# Altium footprint library m.PcbLib: 55 footprints (part 3 of 4)
Each footprint in its own frame and in the unit in brackets; x right, y up, seen from the top. Pads: shape width x height; smd on the part's side, far side on the other; paste and mask are expansions set on the pad; w line width, h text height; cw(c..) or ccw(c..) is an arc to the next point about the centre after c.
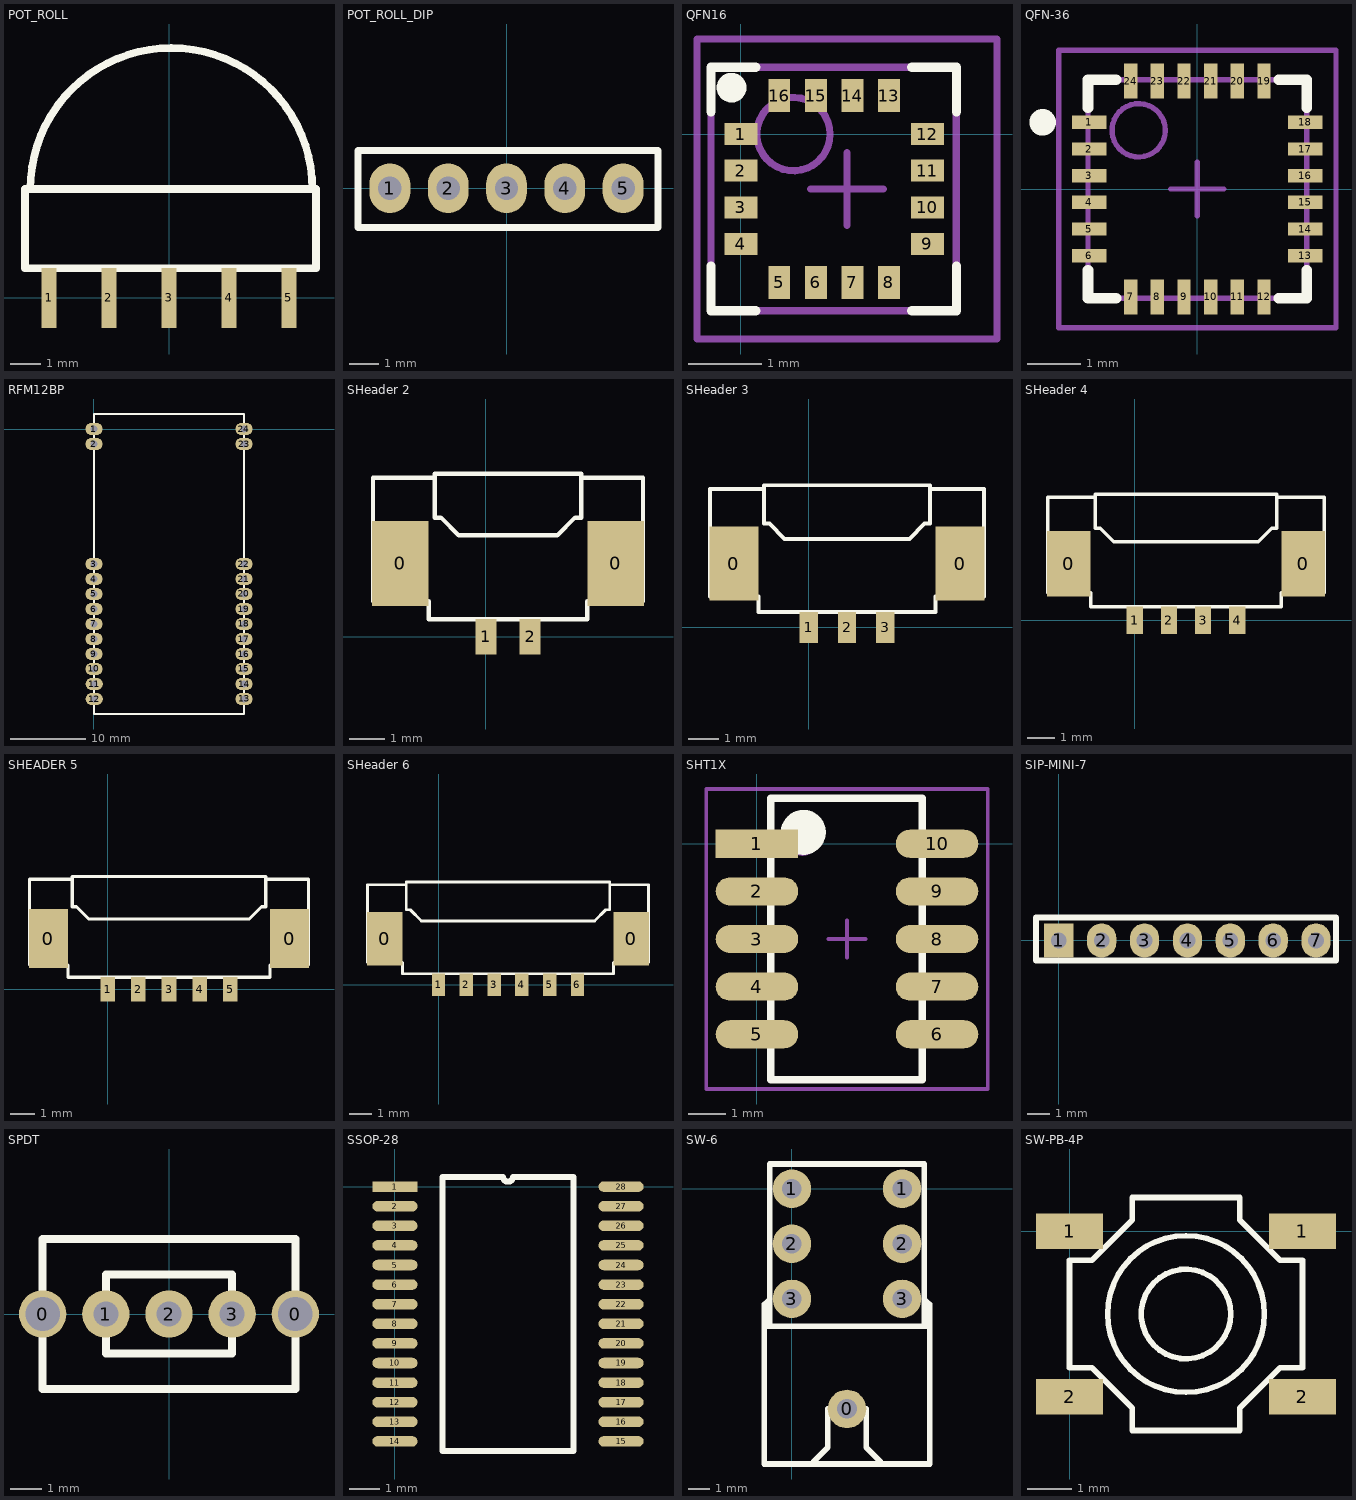
[diagram p2: the footprints below, top view; thin cyan lines are the x and y axes]

## POT_ROLL [mm]
pads (5):
  rect 0.5x2 smd: 1(-4,0) 2(-2,0) 3(0,0) 4(2,0) 5(4,0)
Top Overlay:
  lines w0.254: -4.623,3.632 cw(c0.078,3.632) 4.779,3.632 ; -4.8,0.991 -4.8,3.632 4.9,3.632 4.9,0.991 -4.8,0.991

## POT_ROLL_DIP [mm]
pads (5):
  oval 1.4x1.7 hole 0.8: 1(-4,0) 2(-2,0) 3(0,0) 4(2,0) 5(4,0)
Top Overlay:
  lines w0.254: -5.092,-1.346 5.195,-1.346 5.195,1.295 -5.092,1.295 -5.092,-1.346

## QFN16 [mm] "QFN, 16-Leads, Body 3.0x3.0mm (max), Pitch 0.50mm, IPC Medium Density"
height 0.9
pads (16):
  rect 0.45x0.3 smd: 1(0,0) 2(0,-0.5) 3(0,-1) 4(0,-1.5) 9(2.55,-1.5) 10(2.55,-1) 11(2.55,-0.5) 12(2.55,0)
  rect 0.3x0.45 smd: 5(0.525,-2.025) 6(1.025,-2.025) 7(1.525,-2.025) 8(2.025,-2.025) 13(2.025,0.525) 14(1.525,0.525) 15(1.025,0.525) 16(0.525,0.525)
Top Overlay:
  circle w0.203: c-0.127,0.635 r0.102
  lines w0.127: -0.406,-1.803 -0.406,-2.413 0.203,-2.413 ; -0.406,0.305 -0.406,0.914 0.203,0.914 ; 2.337,-2.413 2.946,-2.413 2.946,-1.803 ; 2.337,0.914 2.946,0.914 2.946,0.305
Mechanical 13:
  circle w0.1: c0.719,0 r0.5
  lines w0.1: -0.406,-2.413 2.946,-2.413 2.946,0.914 -0.406,0.914 -0.406,-2.413
Mechanical 15:
  lines w0.1: 0.951,-0.75 1.951,-0.75 ; 1.451,-1.25 1.451,-0.25 ; -0.599,-2.8 3.501,-2.8 3.501,1.3 -0.599,1.3 -0.599,-2.8
3D body: height 0.9, standoff 0.01, extent -0.178,-2.289 2.822,0.711

## QFN-36 [mm] "QFN, 24-Leads, Body 4.1x4.1mm (max), Pitch 0.50mm, IPC Medium Density"
height 0.95
pads (24):
  rect 0.65x0.25 smd: 1(-2.025,1.25) 2(-2.025,0.75) 3(-2.025,0.25) 4(-2.025,-0.25) 5(-2.025,-0.75) 6(-2.025,-1.25) 13(2.025,-1.25) 14(2.025,-0.75) 15(2.025,-0.25) 16(2.025,0.25) 17(2.025,0.75) 18(2.025,1.25)
  rect 0.25x0.65 smd: 7(-1.25,-2.025) 8(-0.75,-2.025) 9(-0.25,-2.025) 10(0.25,-2.025) 11(0.75,-2.025) 12(1.25,-2.025) 19(1.25,2.025) 20(0.75,2.025) 21(0.25,2.025) 22(-0.25,2.025) 23(-0.75,2.025) 24(-1.25,2.025)
Top Overlay:
  circle w0.25: c-2.9,1.25 r0.125
  lines w0.2: -2.05,-1.525 -2.05,-2.05 -1.525,-2.05 ; -2.05,1.525 -2.05,2.05 -1.525,2.05 ; 1.525,-2.05 2.05,-2.05 2.05,-1.525 ; 1.525,2.05 2.05,2.05 2.05,1.525
Mechanical 13:
  circle w0.1: c-1.1,1.1 r0.5
  lines w0.1: -2.05,-2.05 2.05,-2.05 2.05,2.05 -2.05,2.05 -2.05,-2.05
Mechanical 15:
  lines w0.1: -0.5,0 0.5,0 ; 0,-0.5 0,0.5 ; -2.6,-2.6 2.6,-2.6 2.6,2.6 -2.6,2.6 -2.6,-2.6
3D body: height 0.95, standoff 0.02, extent -2.05,-2.05 2.05,2.05

## RFM12BP [mm]
pads (24):
  oval 2.3x1.6 hole 0.9: 1(0,0) 2(0,-2) 3(0,-18) 4(0,-20) 5(0,-22) 6(0,-24) 7(0,-26) 8(0,-28) 9(0,-30) 10(0,-32) 11(0.025,-34) 12(0.025,-36) 13(20,-36) 14(20,-34) 15(20,-32) 16(20,-30) 17(20,-28) 18(20,-26) 19(20,-24) 20(20,-22) 21(20,-20) 22(20,-18) 23(20,-2) 24(20,0)
Top Overlay:
  lines w0.254: 20,-38 20,2 ; 20,-38 20,-38 ; 20,-38 0,-38 0,2 20,2 ; 20,2 20,2
3D body: height 2, standoff 0, extent 0,-38 20,2

## SHeader 2 [mm]
pads (4):
  rect 1.6x2.4 smd: 0(-2.425,2.075) 0(3.675,2.075)
  rect 0.6x1 smd: 1(0,0) 2(1.25,0)
Top Overlay:
  lines w0.127: -1.475,4.5 -3.2,4.5 -3.2,1 -1.625,1 -1.625,0.5 2.875,0.5 2.875,1 4.45,1 4.45,4.5 2.725,4.5 ; -1.45,4.6 -1.45,3.375 -1.275,3.375 ; -1.45,4.62 2.5,4.62 ; 2.5,4.62 2.7,4.62 ; 2.7,4.6 2.7,3.375 2.525,3.375 ; -1.275,3.375 -0.775,2.875 ; -1.275,3.375 -0.775,2.875 ; -0.775,2.875 2.025,2.875 ; 2.025,2.875 2.525,3.375 ; 2.025,2.875 2.525,3.375
3D body: height 3, standoff 0, extent 1.125,-0.125 1.375,0.775
3D body: height 3, standoff 0, extent -0.125,-0.125 0.125,0.775
3D body: height 3.5, standoff 0, extent -1.475,0.451 2.725,4.65
3D body: height 2.4, standoff 0, extent -3.2,0.95 -1.45,4.5
3D body: height 2.4, standoff 0, extent 2.7,0.95 4.45,4.5

## SHeader 3 [mm]
pads (5):
  rect 1.6x2.4 smd: 0(-2.425,2.075) 0(4.925,2.075)
  rect 0.6x1 smd: 1(0,0) 2(1.25,0) 3(2.5,0)
Top Overlay:
  lines w0.127: -1.475,4.5 -3.2,4.5 -3.2,1 -1.625,1 -1.625,0.5 2.5,0.5 ; -1.45,4.6 -1.45,3.375 -1.275,3.375 ; -1.45,4.62 2.5,4.62 ; 2.5,0.5 4.125,0.5 4.125,1 5.7,1 5.7,4.5 3.975,4.5 ; 2.5,2.875 3.275,2.875 ; 2.5,4.62 3.95,4.62 ; 2.5,2.875 -0.775,2.875 ; 3.95,4.6 3.95,3.375 3.775,3.375 ; -1.275,3.375 -0.775,2.875 ; -1.275,3.375 -0.775,2.875 ; 3.275,2.875 3.775,3.375 ; 3.275,2.875 3.775,3.375
3D body: height 3, standoff 0, extent 2.375,-0.125 2.625,0.775
3D body: height 3, standoff 0, extent 1.125,-0.125 1.375,0.775
3D body: height 3, standoff 0, extent -0.125,-0.125 0.125,0.775
3D body: height 3.5, standoff 0, extent -1.475,0.451 4,4.65
3D body: height 2.4, standoff 0, extent -3.2,0.95 -1.45,4.5
3D body: height 2.4, standoff 0, extent 3.95,0.95 5.7,4.5

## SHeader 4 [mm]
pads (6):
  rect 1.6x2.4 smd: 0(-2.425,2.075) 0(6.175,2.075)
  rect 0.6x1 smd: 1(0,0) 2(1.25,0) 3(2.5,0) 4(3.75,0)
Top Overlay:
  lines w0.127: -1.475,4.5 -3.2,4.5 -3.2,1 -1.625,1 -1.625,0.5 2.5,0.5 ; -1.45,4.6 -1.45,3.375 -1.275,3.375 ; -1.45,4.62 2.5,4.62 ; 2.5,0.5 5.375,0.5 5.375,1 6.95,1 6.95,4.5 5.225,4.5 ; 2.5,2.875 4.5,2.875 ; 2.5,4.62 5.2,4.62 ; 2.5,2.875 -0.775,2.875 ; 5.2,4.6 5.2,3.375 5.025,3.375 ; -1.275,3.375 -0.775,2.875 ; -1.275,3.375 -0.775,2.875 ; 5.025,3.375 4.525,2.875 5.025,3.375
3D body: height 3, standoff 0, extent 3.625,-0.125 3.875,0.775
3D body: height 3, standoff 0, extent 2.375,-0.125 2.625,0.775
3D body: height 3, standoff 0, extent 1.125,-0.125 1.375,0.775
3D body: height 3, standoff 0, extent -0.125,-0.125 0.125,0.775
3D body: height 3.5, standoff 0, extent -1.625,0.45 5.2,4.65
3D body: height 2.4, standoff 0, extent -3.2,0.95 -1.45,4.5
3D body: height 2.4, standoff 0, extent 5.2,0.95 6.95,4.5

## SHEADER 5 [mm] "SMD Header 1.27mm"
pads (7):
  rect 1.6x2.4 smd: 0(-2.425,2.075) 0(7.425,2.075)
  rect 0.6x1 smd: 1(0,0) 2(1.25,0) 3(2.5,0) 4(3.75,0) 5(5,0)
Top Overlay:
  lines w0.127: -1.475,4.5 -3.2,4.5 -3.2,1 -1.625,1 -1.625,0.5 2.5,0.5 ; -1.45,4.6 -1.45,3.375 -1.275,3.375 ; -1.45,4.62 2.5,4.62 ; 2.5,0.5 6.625,0.5 6.625,1 8.2,1 8.2,4.5 6.475,4.5 ; 2.5,2.875 5.775,2.875 ; 2.5,4.62 6.45,4.62 ; 2.5,2.875 -0.775,2.875 ; 6.45,4.6 6.45,3.375 6.275,3.375 ; -1.275,3.375 -0.775,2.875 ; -1.275,3.375 -0.775,2.875 ; 5.775,2.875 6.275,3.375 ; 5.775,2.875 6.275,3.375
3D body: height 3, standoff 0, extent 4.875,-0.125 5.125,0.775
3D body: height 3, standoff 0, extent 3.625,-0.125 3.875,0.775
3D body: height 3, standoff 0, extent 2.375,-0.125 2.625,0.775
3D body: height 3, standoff 0, extent 1.125,-0.125 1.375,0.775
3D body: height 3, standoff 0, extent -0.125,-0.125 0.125,0.775
3D body: height 3.5, standoff 0, extent -1.625,0.45 6.625,4.65
3D body: height 2.4, standoff 0, extent 6.45,0.95 8.2,4.5
3D body: height 2.4, standoff 0, extent -3.2,0.95 -1.45,4.5

## SHeader 6 [mm]
pads (8):
  rect 1.6x2.4 smd: 0(-2.425,2.075) 0(8.675,2.075)
  rect 0.6x1 smd: 1(0,0) 2(1.25,0) 3(2.5,0) 4(3.75,0) 5(5,0) 6(6.25,0)
Top Overlay:
  lines w0.127: -1.475,4.5 -3.2,4.5 -3.2,1 -1.625,1 -1.625,0.5 2.5,0.5 ; -1.45,4.6 -1.45,3.375 -1.275,3.375 ; -1.45,4.62 2.5,4.62 ; 2.5,0.5 7.875,0.5 7.875,1 9.45,1 9.45,4.5 7.725,4.5 ; 2.5,2.875 7.025,2.875 ; 2.5,4.62 7.7,4.62 ; 2.5,2.875 -0.775,2.875 ; 7.7,4.6 7.7,3.375 7.525,3.375 ; -1.275,3.375 -0.775,2.875 ; -1.275,3.375 -0.775,2.875 ; 7.025,2.875 7.525,3.375 ; 7.025,2.875 7.525,3.375
3D body: height 3, standoff 0, extent 6.125,-0.125 6.375,0.775
3D body: height 2.4, standoff 0, extent -3.2,0.95 -1.45,4.5
3D body: height 2.4, standoff 0, extent 7.7,0.95 9.45,4.5
3D body: height 3.5, standoff 0, extent -1.625,0.45 7.875,4.65
3D body: height 3, standoff 0, extent -0.125,-0.125 0.125,0.775
3D body: height 3, standoff 0, extent 1.125,-0.125 1.375,0.775
3D body: height 3, standoff 0, extent 2.375,-0.125 2.625,0.775
3D body: height 3, standoff 0, extent 3.625,-0.125 3.875,0.775
3D body: height 3, standoff 0, extent 4.875,-0.125 5.125,0.775

## SHT1X [mm] "Sensor"
height 2.65
pads (10):
  rect 2.2x0.75 smd: 1(0,0)
  oval 2.2x0.75 smd: 2(0,-1.27) 3(0,-2.54) 4(0,-3.81) 5(0,-5.08) 6(4.8,-5.08) 7(4.8,-3.81) 8(4.8,-2.54) 9(4.8,-1.27) 10(4.8,0)
Top Overlay:
  circle w0.25: c1.208,0.279 r0.125
  circle w0.6: c1.236,0.305 r0.3
  lines w0.2: 0.368,-6.29 0.368,1.21 4.407,1.21 4.407,-6.29 0.368,-6.29
Mechanical 13:
  circle w0.1: c1.189,0.229 r0.5
  lines w0.1: 0.343,-6.275 0.343,1.195 4.407,1.195 4.407,-6.275 0.343,-6.275
Mechanical 15:
  lines w0.1: 1.9,-2.54 2.9,-2.54 ; 2.4,-3.04 2.4,-2.04 ; -1.35,-6.54 -1.35,1.46 6.15,1.46 6.15,-6.54 -1.35,-6.54
3D body: height 1.6, standoff 0.7, extent 1.169,-4.064 3.556,0
3D body: height 1.9, standoff -0.5, extent 1.169,-5.259 3.556,-2.869
3D body: height 0.8, standoff 0, extent 0.368,-6.274 4.381,1.245

## SIP-MINI-7 [mm]
pads (7):
  rect 1.3x1.524 hole 0.7: 1(0,0)
  oval 1.3x1.524 hole 0.7: 2(1.905,0) 3(3.81,0) 4(5.715,0) 5(7.62,0) 6(9.525,0) 7(11.43,0)
Top Overlay:
  lines w0.254: -1.016,-0.889 -1.016,1.016 12.319,1.016 12.319,-0.889 -1.016,-0.889

## SPDT [mil] "mini SW two position"
pads (5):
  round 60 hole 43.31: 0(-160,0) 0(160,0)
  round 60 hole 31.5: 1(-80,0) 2(0,0) 3(80,0)
Top Overlay:
  lines w10: -160,-95 -160,95 160,95 160,-95 -160,-95 ; -80,-50 80,-50 80,50 -80,50 -80,-50

## SSOP-28 [mm]
pads (28):
  rect 1.5x0.35 smd: 1(0,0)
  oval 1.5x0.35 smd: 2(0,-0.65) 3(0,-1.3) 4(0,-1.95) 5(0,-2.6) 6(0,-3.25) 7(0,-3.9) 8(0,-4.55) 9(0,-5.2) 10(0,-5.85) 11(0,-6.5) 12(0,-7.15) 13(0,-7.8) 14(0,-8.45) 15(7.5,-8.45) 16(7.5,-7.8) 17(7.5,-7.15) 18(7.5,-6.5) 19(7.5,-5.85) 20(7.5,-5.2) 21(7.5,-4.55) 22(7.5,-3.9) 23(7.5,-3.25) 24(7.5,-2.6) 25(7.5,-1.95) 26(7.5,-1.3) 27(7.5,-0.65) 28(7.5,0)
Top Overlay:
  lines w0.2: 1.585,-8.775 1.585,0.325 3.588,0.325 ccw(c3.75,0.325) 3.912,0.325 5.915,0.325 5.915,-8.775 1.585,-8.775

## SW-6 [mil]
pads (7):
  round 70 hole 35.43: 0(100,-400) 1(0,0) 1(200,0) 2(0,-100) 2(200,-100) 3(0,-200) 3(200,-200)
Top Overlay:
  lines w10: -50,-245 -50,-500 250,-500 250,-250 ; -40,-200 -50,-210 -50,-250 -45,-250 -30,-250 ; 40,-495 65,-470 65,-400 ; 135,-400 135,-470 160,-495 ; 240,-200 250,-210 250,-250 ; 245,-250 240,-245 240,-205 240,45 -40,45 -40,-250 250,-250

## SW-PB-4P [mm]
pads (4):
  rect 1.5x0.8 smd: 1(0,0) 1(5.2,0) 2(0,-3.7) 2(5.2,-3.7)
Top Overlay:
  circle w0.127: c2.6,-1.85 r1
  circle w0.127: c2.6,-1.85 r1.75
  lines w0.127: 0,-3.05 0,-0.65 0.5,-0.65 1.4,0.25 1.4,0.75 3.8,0.75 3.8,0.25 4.7,-0.65 5.2,-0.65 5.2,-3.05 4.7,-3.05 3.8,-3.95 3.8,-4.45 1.4,-4.45 1.4,-3.95 0.5,-3.05 0,-3.05 ; 5.2,-2.8 5.2,-2.8
3D body: height 1, standoff 0, extent 0,-4.45 5.225,0.75
3D body: height 2, standoff -2, extent 0.6,-3.85 4.579,0.133
3D body: height 2.2, standoff 0, extent 1.625,-2.848 3.617,-0.852